# Altium integrated library SN74LS157N.IntLib: 1 symbol
Pins are listed as number, name and electrical type; pins without a type are passive.

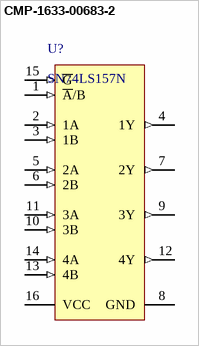
[diagram p0: symbol CMP-1633-00683-2]

## CMP-1633-00683-2
designator U?, comment SN74LS157N
Quadruple 2-Line To 1-Line Data Selectors/Multiplexers, N0016A, TUBE; Manufacturer: Texas Instruments; Configuration: 2：1; Voltage(Nom)(V): 5; ICC @ Nom Voltage(Max)(mA): 16; VCC(Min)(V): 4.75; Channels(#): 4; Rating: Military; tpd @ Nom Voltage(Max)(ns): 14; F @ Nom Voltage(Max)(Mhz): 35; Technology Family: LS; Output Drive (IOL/IOH)(Max)(mA): 8/-0.4; Function: Encoder/Multiplexer; Schmitt Trigger: No; VCC(Max)(V): 5.25; Generic Part Number: SN74LS157; DatasheetVersion: SDLS058; Code_JEDEC: MS-001; Operating Temperature Range(C): 0 to 70; Type: Standard; PackageReference: N0016A
footprint N0016A (DIP, 16-Leads, Body 19.7x6.6mm, Pitch 2.54mm)
pins: 1 ~{A}/B (in), 2 1A (in), 3 1B (in), 4 1Y (out), 5 2A (in), 6 2B (in), 7 2Y (out), 8 GND (power), 9 3Y (out), 10 3B (in), 11 3A (in), 12 4Y (out), 13 4B (in), 14 4A (in), 15 ~{G} (in), 16 VCC (power)